# Altium footprint library PcbLib1.PcbLib: 15 footprints
Each footprint in its own frame and in the unit in brackets; x right, y up, seen from the top. Pads: shape width x height; smd on the part's side, far side on the other; paste and mask are expansions set on the pad; w line width, h text height; cw(c..) or ccw(c..) is an arc to the next point about the centre after c.
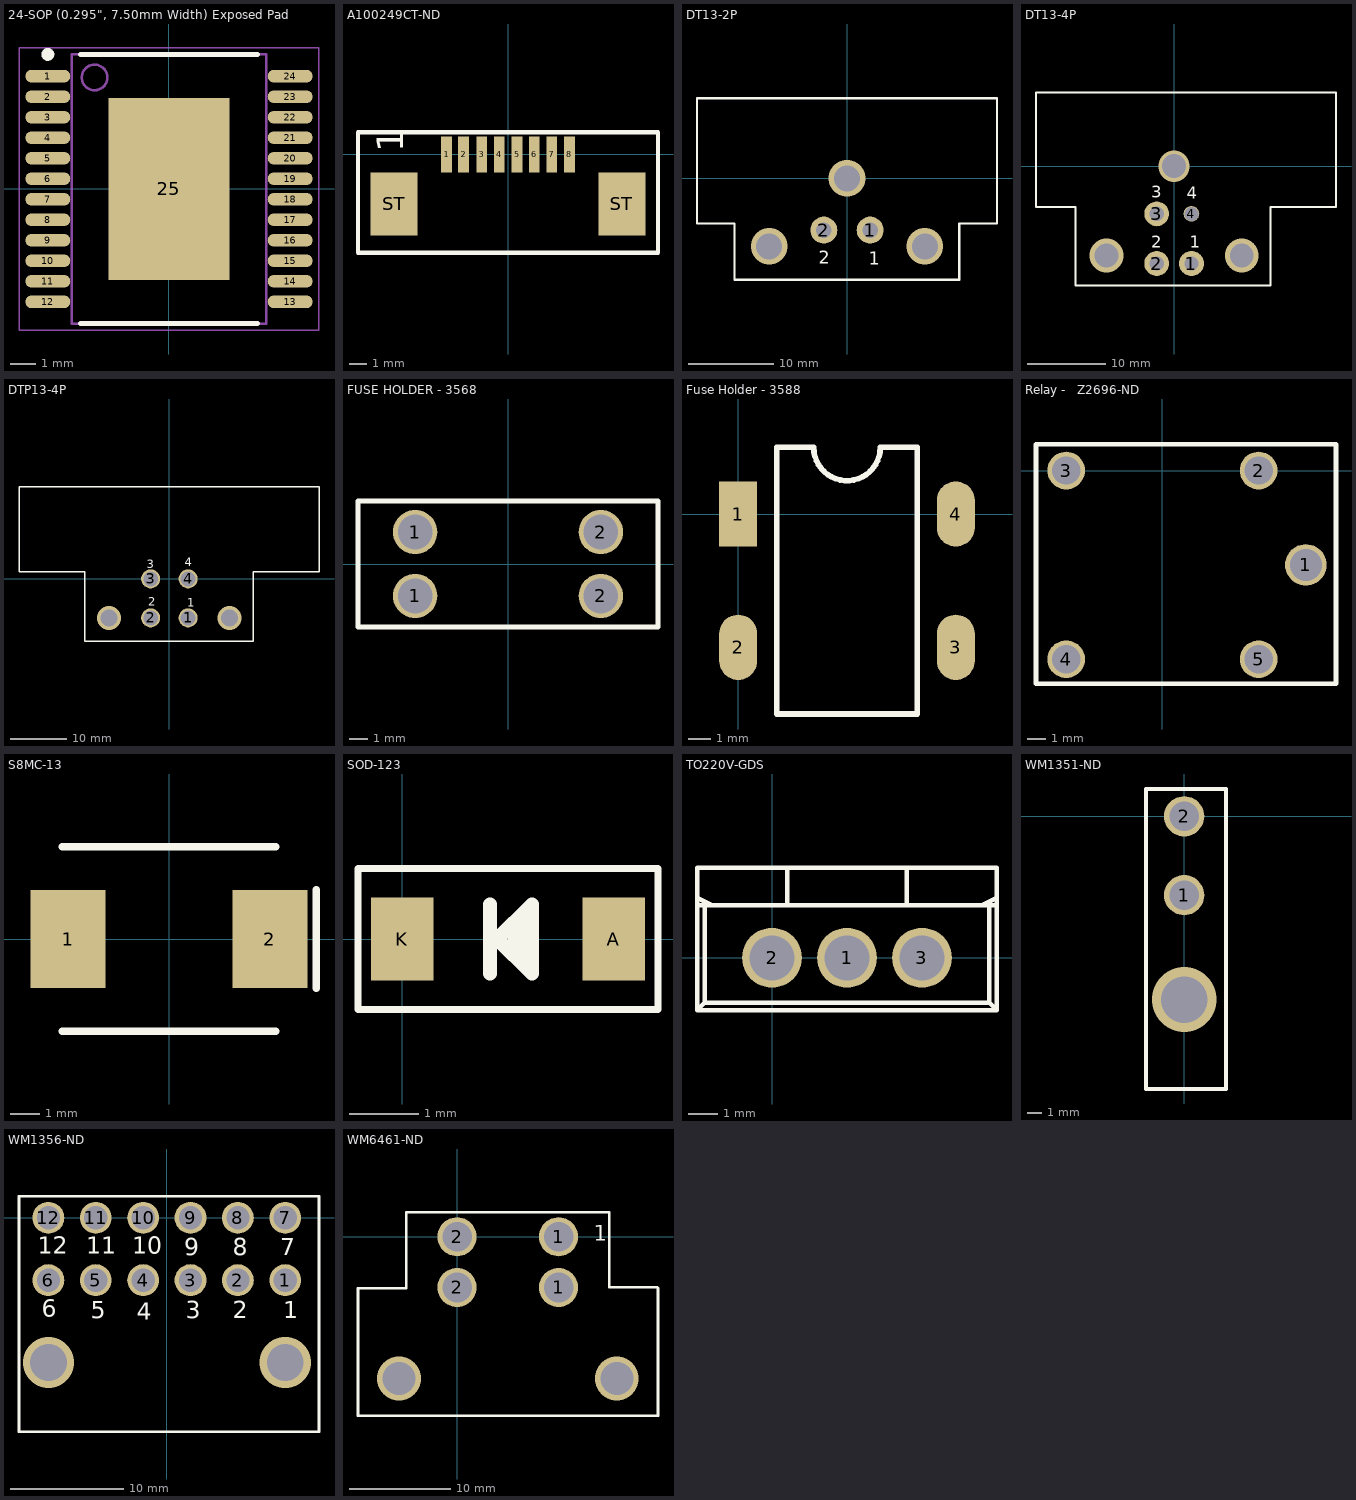
[diagram p0: the footprints below, top view; thin cyan lines are the x and y axes]

## 2J-Lead 6.1 x 5.3 [mm]

## 24-SOP (0.295", 7.50mm Width) Exposed Pad [mm] "VNQ5050KTR-E"
height 2.45
pads (25):
  oval 1.75x0.5 smd: 1(-4.725,4.4) 2(-4.725,3.6) 3(-4.725,2.8) 4(-4.725,2) 5(-4.725,1.2) 6(-4.725,0.4) 7(-4.725,-0.4) 8(-4.725,-1.2) 9(-4.725,-2) 10(-4.725,-2.8) 11(-4.725,-3.6) 12(-4.725,-4.4) 13(4.725,-4.4) 14(4.725,-3.6) 15(4.725,-2.8) 16(4.725,-2) 17(4.725,-1.2) 18(4.725,-0.4) 19(4.725,0.4) 20(4.725,1.2) 21(4.725,2) 22(4.725,2.8) 23(4.725,3.6) 24(4.725,4.4)
  rect 4.7x7.1 smd: 25(0,0)
Top Overlay:
  circle w0.25: c-4.725,5.25 r0.125
  lines w0.2: -3.45,-5.25 3.45,-5.25 ; -3.45,5.25 3.45,5.25
Mechanical 13:
  circle w0.1: c-2.9,4.35 r0.5
  lines w0.1: -3.8,-5.25 3.8,-5.25 3.8,5.25 -3.8,5.25 -3.8,-5.25
Mechanical 15:
  lines w0.05: -5.85,-5.5 5.85,-5.5 5.85,5.5 -5.85,5.5 -5.85,-5.5
  lines w0.1: -0.5,0 0.5,0 ; 0,-0.5 0,0.5
3D body: height 2.45, standoff 0.1, extent -3.8,-5.25 3.8,5.25

## A100249CT-ND [mil]
pads (10):
  rect 24x80 smd: 1(-137.8,0) 2(-99.6,0) 3(-59.06,0) 4(-19.68,0) 5(20.4,0) 6(59.06,0) 7(98.43,0) 8(137.8,0)
  rect 105.51x141.73 smd: ST(-255.51,-110.87) ST(255.51,-110.87)
Top Overlay:
  lines w10: -336.38,-220 336.38,-220 336.38,50 -336.38,50 -336.38,-220
  text "1" at -235,5 h60
3D body: height 100.79, standoff 7.09, extent -340,-220 340,50

## DT13-2P [mil]
pads (2):
  round 125 hole 72: 1(107.5,-240) 2(-107.5,-240)
via 360.5,-315 diameter 170 hole 120
via -360.5,-315 diameter 170 hole 120
via 0,0 diameter 170 hole 120
Top Overlay:
  lines w10: -521,-470 520,-470 520,-210 695,-210 695,371 ; -521,-465 -521,-210 -695,-210 -695,371 690,371
  text "." at 550,-455 h60
  text "1" at 100,-400 h60
  text "2" at -130,-395 h60
3D body "DT13-2P.stp": height 1090, standoff -121, extent -695,-475 695,945

## DT13-4P [mil]
pads (4):
  round 125 hole 72: 1(87.5,-490) 2(-87.5,-490) 3(-87.5,-240)
  round 78.74 hole 70.87: 4(87.5,-240)
via 340.5,-450 diameter 170 hole 120
via -340.5,-450 diameter 170 hole 120
via 0,0 diameter 157.48 hole 120
Top Overlay:
  lines w10: -500,-205 -695,-205 -695,370 815,370 815,-205 490,-205 ; -495,-205 -495,-600 485,-600 485,-205
  text "." at 515,-580 h60
  text "1" at 80,-410 h60
  text "2" at -115,-410 h60
  text "3" at -115,-160 h60
  text "4" at 65,-165 h60
3D body "DT13-4P.stp": height 1394, standoff -125, extent -700,-607.5 810,947.5

## DTP13-4P [mil]
pads (4):
  round 134 hole 104: 1(132,-275) 2(-132,-275) 3(-132,0) 4(132,0)
via -425,-275 diameter 170 hole 120
via 425,-275 diameter 170 hole 120
Top Overlay:
  lines w10: -1060,50 -595,50 -595,-440 590,-440 590,50 1055,50 1055,650 -1060,650 -1060,50
  text "1" at 125,-195 h60
  text "2" at -150,-190 h60
  text "3" at -160,75 h60
  text "4" at 110,90 h60
  text "." at 625,-410 h60
3D body "DTP13-4P.stp": height 1418.5, standoff -170.08, extent -1070,-440 1060,1397

## FUSE HOLDER - 3568 [mil]
pads (4):
  round 93 hole 73: 1(-195,-67) 1(-195,67) 2(195,-67) 2(195,67)
Top Overlay:
  lines w10: -315,-132.5 -315,132.5 315,132.5 315,-132.5 -315,-132.5

## Fuse Holder - 3588 [mil]
pads (4):
  rect 68x117 smd: 1(0,0)
  oval 68x117 smd: 2(0,-239) 3(390,-239) 4(390,0)
Top Overlay:
  lines w10: 69,-358.5 69,119.5 135.25,119.5 ccw(c195,119.5) 254.75,119.5 321,119.5 321,-358.5 69,-358.5

## Relay -   Z2696-ND [mm]
pads (5):
  round 2.2 hole 1.7: 1(7.6,-5)
  round 2 hole 1.5: 2(5.1,0) 3(-5.1,0) 4(-5.1,-10) 5(5.1,-10)
Top Overlay:
  lines w0.254: -6.7,-11.303 9.2,-11.303 9.2,1.397 -6.7,1.397 -6.7,-11.303

## S8MC-13 [mm]
pads (2):
  rect 2.54x3.302 smd: 1(-3.4,0) 2(3.4,0)
Top Overlay:
  lines w0.254: -3.6,-3.1 3.6,-3.1 ; -3.6,3.1 3.6,3.1 ; 4.953,-1.651 4.953,1.651

## SOD-123 [mm]
pads (2):
  rect 0.9x1.2 smd: A(3.048,0) K(0,0)
Top Overlay:
  lines w0.102: -0.635,-1.016 3.683,-1.016 3.683,1.016 -0.635,1.016 -0.635,-1.016
  lines w0.2: 1.267,-0.5 1.267,0.5 ; 1.617,-0.15 1.617,0.15 ; 1.767,-0.3 1.767,0.3 ; 1.367,0 1.867,0.5 1.867,-0.5 1.367,0
3D body: height 0.79, standoff 0.74, extent 0.475,-0.75 0.6,0.75
3D body: height 0.7, standoff 0, extent 0.013,-0.25 0.138,0.25
3D body: height 0.7, standoff 0.5, extent 0.125,-0.25 0.225,0.25
3D body: height 0.2, standoff 0, extent -0.175,-0.25 0.025,0.25
3D body: height 0.76, standoff 0, extent 0.225,-0.875 2.9,0.875
3D body: height 0.2, standoff 0, extent 3.1,-0.225 3.3,0.275
3D body: height 0.7, standoff 0.5, extent 2.9,-0.225 3,0.275
3D body: height 0.7, standoff 0, extent 2.987,-0.225 3.112,0.275

## TO220V-GDS [mil]
pads (3):
  round 80 hole 60 unplated: 1(100,0) 2(0,0) 3(200,0)
Top Overlay:
  lines w6: -100,70 -80,70 ; -100,80 -80,70 ; -90,70 -90,-60 ; 20,120 20,70 100,70 ; 180,120 180,70 100,70 ; 290,70 290,-60 ; 300,70 280,70 ; 300,80 280,70 ; -100,-70 -90,-60 ; -100,-70 -100,120 100,120 300,120 300,-70 ; -100,-70 100,-70 300,-70 ; -90,-60 100,-60 290,-60 ; -80,70 100,70 ; 100,70 280,70 ; 290,-60 300,-70
3D body: height 920, standoff 320, extent -100,70 300,120
3D body: height 670, standoff 320, extent -100,-70 300,70
3D body: height 160, standoff -120, extent 180,-20 220,20
3D body: height 320, standoff 160, extent 165,-20 235,20
3D body: height 320, standoff 160, extent 65,-20 135,20
3D body: height 160, standoff -120, extent 80,-20 120,20
3D body: height 320, standoff 160, extent -35,-20 35,20
3D body: height 160, standoff -120, extent -20,-20 20,20

## WM1351-ND [mil]
pads (2):
  round 111 hole 81: 1(0,-217) 2(0,0)
via 0,-504 diameter 178 hole 128
Top Overlay:
  lines w10: -105,-750 -105,75 115,75 115,-750 -105,-750
3D body "WM1351-ND.stp": height 448.82, standoff -141.73, extent -108.35,-767.42 120,17.42

## WM1356-ND [mil]
pads (12):
  round 111 hole 81: 1(412.5,-217) 2(247.5,-217) 3(82.5,-217) 4(-82.5,-217) 5(-247.5,-217) 6(-412.5,-217) 7(412.5,0) 8(247.5,0) 9(82.5,0) 10(-82.5,0) 11(-247.5,0) 12(-412.5,0)
via 412.5,-504 diameter 178 hole 128
via -412.5,-504 diameter 178 hole 128
Top Overlay:
  lines w10: -515,-745 -515,75 530,75 530,-745 -515,-745
  text "5" at -265,-350 h60
  text "4" at -105,-355 h60
  text "3" at 65,-350 h60
  text "2" at 230,-350 h60
  text "1" at 405,-350 h60
  text "7" at 395,-130 h60
  text "8" at 230,-130 h60
  text "9" at 60,-130 h60
  text "10" at -120,-125 h60
  text "11" at -280,-125 h60
  text "6" at -435,-345 h60
  text "12" at -450,-125 h60
3D body "WM1356-ND.stp": height 448.82, standoff -141.73, extent -519.68,-765 535.44,19.84

## WM6461-ND [mil]
pads (4):
  round 152 hole 115: 1(394,-197) 1(394,0) 2(0,-197) 2(0,0)
via 620,-551 diameter 170 hole 128
via -226,-551 diameter 170 hole 128
Top Overlay:
  lines w10: -385,-695 -385,-200 -196.85,-200 -196.85,95 590.55,95 590.55,-196.85 776.85,-196.85 780,-200 780,-695 -385,-695
  text "1" at 530,-15 h60
3D body "428202213.stp": height 554.96, standoff -135.98, extent -273.9,-1080.51 663.9,65.16